# Altium footprint library Header-2mm-2X15-F-V.PcbLib: 1 footprints
Each footprint in its own frame and in the unit in brackets; x right, y up, seen from the top. Pads: shape width x height; smd on the part's side, far side on the other; paste and mask are expansions set on the pad; w line width, h text height; cw(c..) or ccw(c..) is an arc to the next point about the centre after c.
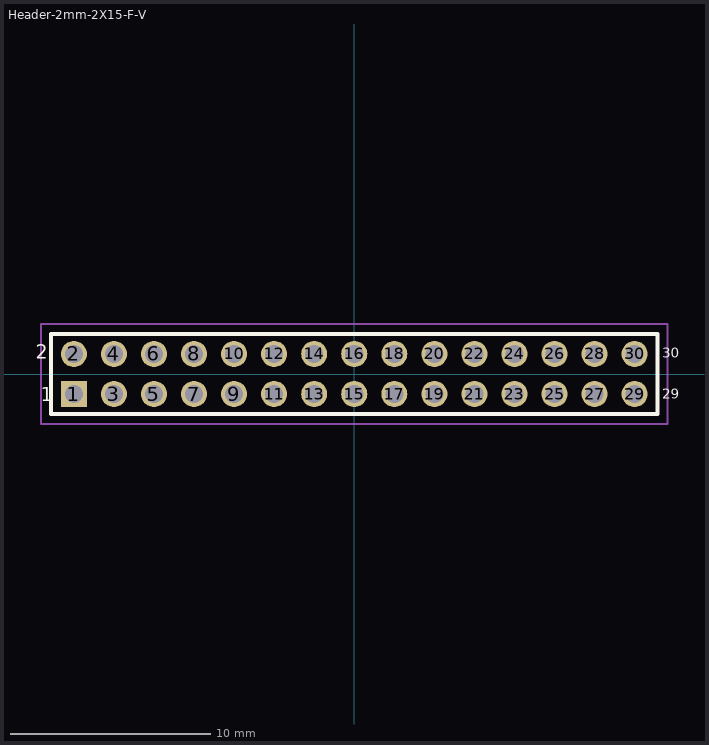
[diagram p0: the footprint, top view; thin cyan lines are the x and y axes]

## Header-2mm-2X15-F-V [mm]
pads (30):
  rect 1.3x1.3 hole 0.9: 1(-14,-1)
  round 1.3 hole 0.9: 2(-14,1) 3(-12,-1) 4(-12,1) 5(-10,-1) 6(-10,1) 7(-8,-1) 8(-8,1) 9(-6,-1) 10(-6,1) 11(-4,-1) 12(-4,1) 13(-2,-1) 14(-2,1) 15(0,-1) 16(0,1) 17(2,-1) 18(2,1) 19(4,-1) 20(4,1) 21(6,-1) 22(6,1) 23(8,-1) 24(8,1) 25(10,-1) 26(10,1) 27(12,-1) 28(12,1) 29(14,-1) 30(14,1)
Top Overlay:
  lines w0.2: -15.15,-2 15.15,-2 15.15,2 -15.15,2 -15.15,-2
  text "30" at 15.375,0.8 h0.5
  text "29" at 15.375,-1.225 h0.5
  text "1" at -15.65,-1.35 h0.7
  text "2" at -15.9,0.75 h0.7
Top Courtyard:
  lines w0.1: -15.65,-2.5 -15.65,2.5 15.65,2.5 15.65,-2.5 -15.15,-2.5 -15.65,-2.5
3D body "SQT-115-01-F-D.stp": height 6.35, standoff -2.29, extent -15.15,-2 15.147,2